# Altium schematic symbol library CMV_lib.SchLib: 2 symbols
Pins are listed as number, name and electrical type; pins without a type are passive.

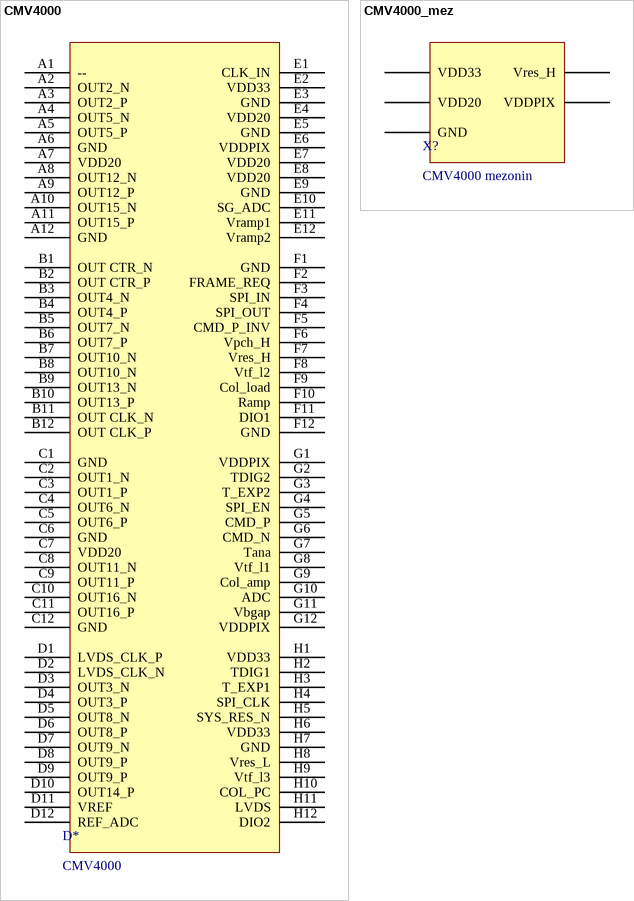
[diagram p0: symbols CMV4000 to CMV4000_mez]

## CMV4000
designator D*
footprint CMV4000
pins: A1 --, A2 OUT2_N, A3 OUT2_P, A4 OUT5_N, A5 OUT5_P, A6 GND, A7 VDD20, A8 OUT12_N, A9 OUT12_P, A10 OUT15_N, A11 OUT15_P, A12 GND, B1 OUT CTR_N, B2 OUT CTR_P, B3 OUT4_N, B4 OUT4_P, B5 OUT7_N, B6 OUT7_P, B7 OUT10_N, B8 OUT10_N, B9 OUT13_N, B10 OUT13_P, B11 OUT CLK_N, B12 OUT CLK_P, C1 GND, C2 OUT1_N, C3 OUT1_P, C4 OUT6_N, C5 OUT6_P, C6 GND, C7 VDD20, C8 OUT11_N, C9 OUT11_P, C10 OUT16_N, C11 OUT16_P, C12 GND, D1 LVDS_CLK_P, D2 LVDS_CLK_N, D3 OUT3_N, D4 OUT3_P, D5 OUT8_N, D6 OUT8_P, D7 OUT9_N, D8 OUT9_P, D9 OUT9_P, D10 OUT14_P, D11 VREF, D12 REF_ADC, E1 CLK_IN, E2 VDD33, E3 GND, E4 VDD20, E5 GND, E6 VDDPIX, E7 VDD20, E8 VDD20, E9 GND, E10 SG_ADC, E11 Vramp1, E12 Vramp2, F1 GND, F2 FRAME_REQ, F3 SPI_IN, F4 SPI_OUT, F5 CMD_P_INV, F6 Vpch_H, F7 Vres_H, F8 Vtf_l2, F9 Col_load, F10 Ramp, F11 DIO1, F12 GND, G1 VDDPIX, G2 TDIG2, G3 T_EXP2, G4 SPI_EN, G5 CMD_P, G6 CMD_N, G7 Tana, G8 Vtf_l1, G9 Col_amp, G10 ADC, G11 Vbgap, G12 VDDPIX, H1 VDD33, H2 TDIG1, H3 T_EXP1, H4 SPI_CLK, H5 SYS_RES_N, H6 VDD33, H7 GND, H8 Vres_L, H9 Vtf_l3, H10 COL_PC, H11 LVDS, H12 DIO2

## CMV4000_mez
designator X?, comment CMV4000 mezonin
footprint CMV4000_mez
pins: GND, VDD20, VDD33, VDDPIX, Vres_H